# EAGLE library part IC-ATMEGA32U4 (library ic)
ATmega32U4
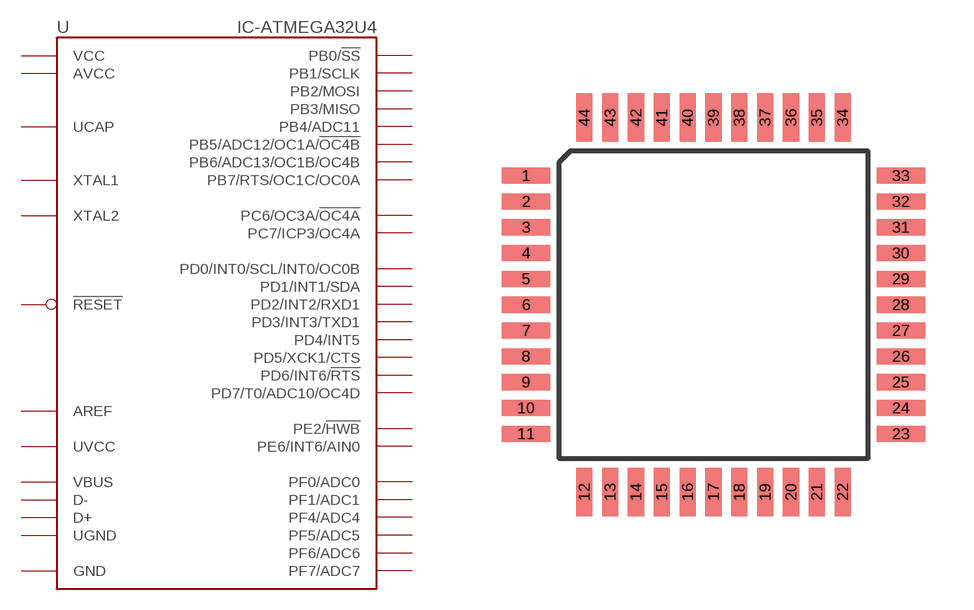
[diagram p5: symbol with the pads of IC-44-TQFP-08; footprint IC-44-TQFP-08]

Designator prefix U

## IC-ATMEGA32U4  [IC-44-TQFP-08]
1  PE6/INT6/AIN0
2  UVCC  pwr
3  D-
4  D+
5  UGND  pwr
6  UCAP  pas
7  VBUS  in
8  PB0/!SS
9  PB1/SCLK
10  PB2/MOSI
11  PB3/MISO
12  PB7/RTS/OC1C/OC0A
13  !RESET
14  VCC  pwr
15  GND  pwr
16  XTAL2
17  XTAL1
18  PD0/INT0/SCL/INT0/OC0B
19  PD1/INT1/SDA
20  PD2/INT2/RXD1
21  PD3/INT3/TXD1
22  PD5/XCK1/CTS
23  GND  pwr
24  AVCC  pwr
25  PD4/INT5
26  PD6/INT6/!RTS
27  PD7/T0/ADC10/OC4D
28  PB4/ADC11
29  PB5/ADC12/OC1A/!OC4B
30  PB6/ADC13/OC1B/OC4B
31  PC6/OC3A/!OC4A
32  PC7/ICP3/OC4A
33  PE2/!HWB
34  VCC  pwr
35  GND  pwr
36  PF7/ADC7
37  PF6/ADC6
38  PF5/ADC5
39  PF4/ADC4
40  PF1/ADC1
41  PF0/ADC0
42  AREF  sup
43  GND  pwr
44  AVCC  pwr

## Footprint IC-44-TQFP-08 (pad centres in mm)
smd 1.5 x 0.5: 1 -5.8,4; 2 -5.8,3.2; 3 -5.8,2.4; 4 -5.8,1.6; 5 -5.8,0.8; 6 -5.8,0; 7 -5.8,-0.8; 8 -5.8,-1.6; 9 -5.8,-2.4; 10 -5.8,-3.2; 11 -5.8,-4; 23 5.8,-4; 24 5.8,-3.2; 25 5.8,-2.4; 26 5.8,-1.6; 27 5.8,-0.8; 28 5.8,0; 29 5.8,0.8; 30 5.8,1.6; 31 5.8,2.4; 32 5.8,3.2; 33 5.8,4
smd 0.5 x 1.5: 12 -4,-5.8; 13 -3.2,-5.8; 14 -2.4,-5.8; 15 -1.6,-5.8; 16 -0.8,-5.8; 17 0,-5.8; 18 0.8,-5.8; 19 1.6,-5.8; 20 2.4,-5.8; 21 3.2,-5.8; 22 4,-5.8; 34 4,5.8; 35 3.2,5.8; 36 2.4,5.8; 37 1.6,5.8; 38 0.8,5.8; 39 0,5.8; 40 -0.8,5.8; 41 -1.6,5.8; 42 -2.4,5.8; 43 -3.2,5.8; 44 -4,5.8